# Altium footprint library KF301-5.0.PcbLib: 14 footprints
Each footprint in its own frame and in the unit in brackets; x right, y up, seen from the top. Pads: shape width x height; smd on the part's side, far side on the other; paste and mask are expansions set on the pad; w line width, h text height; cw(c..) or ccw(c..) is an arc to the next point about the centre after c.
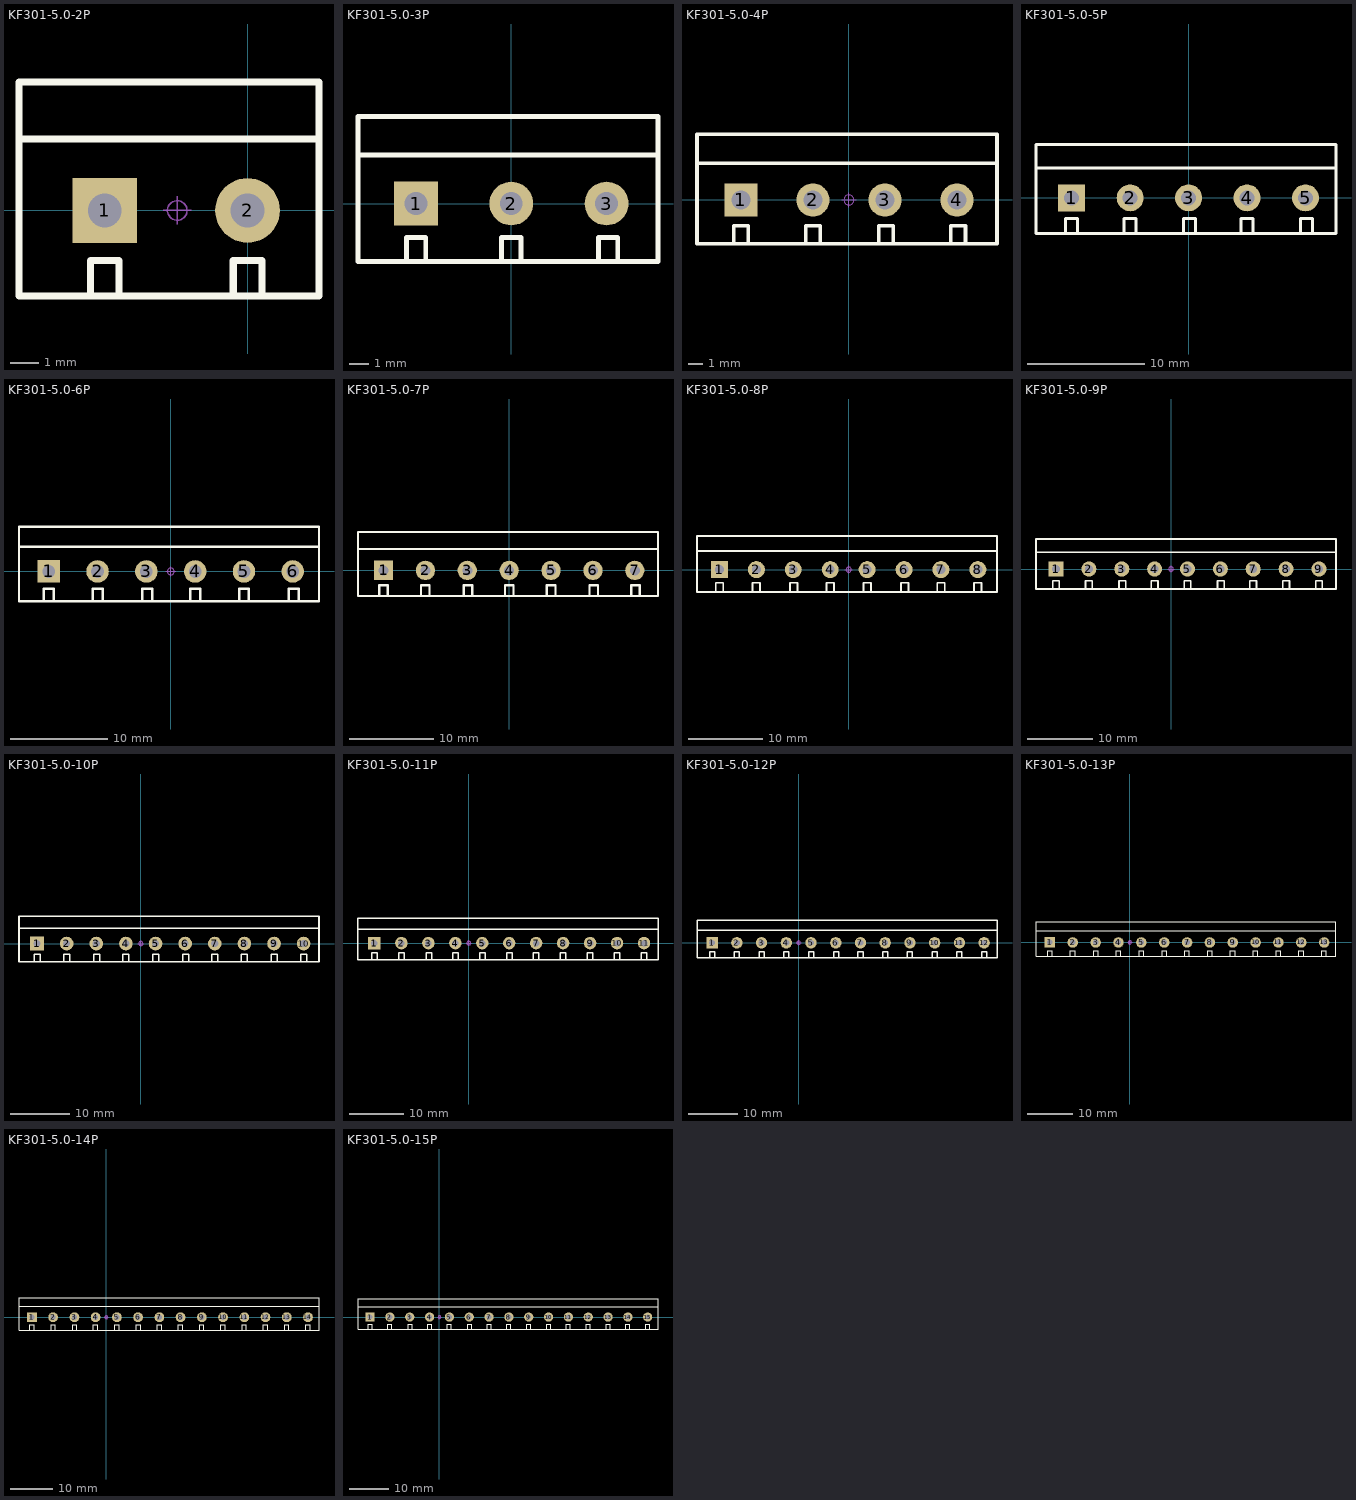
[diagram p0: the footprints below, top view; thin cyan lines are the x and y axes]

## KF301-5.0-2P [mm] "可拼接端子/6A"
pads (2):
  rect 2.3x2.3 hole 1.2: 1(-5.08,0)
  round 2.3 hole 1.2: 2(0,0)
Top Overlay:
  lines w0.254: -8.128,2.54 2.54,2.54 ; -5.588,-3.048 -5.588,-1.778 -4.572,-1.778 -4.572,-3.048 ; -0.508,-3.048 -0.508,-1.778 0.508,-1.778 0.508,-3.048 ; -8.128,-3.048 2.54,-3.048 2.54,4.572 -8.128,4.572 -8.128,-3.048
Mechanical 15:
  circle w0.05: c-2.5,0 r0.35
  lines w0.05: -3,0 -2,0 ; -2.5,-0.5 -2.5,0.5
3D body "KF301.STEP": height 10.05, standoff -3.75, extent -2.95,-3 2.55,4.6
3D body "KF301.STEP": height 10.05, standoff -3.75, extent -7.95,-3 -2.45,4.6

## KF301-5.0-3P [mm] "可拼接端子/6A"
pads (3):
  rect 2.3x2.3 hole 1.2: 1(-5,0)
  round 2.3 hole 1.2: 2(0,0) 3(5,0)
Top Overlay:
  lines w0.254: -8.048,2.54 7.7,2.54 ; -5.508,-3.048 -5.508,-1.778 -4.492,-1.778 -4.492,-3.048 ; -0.508,-3.048 -0.508,-1.778 0.508,-1.778 0.508,-3.048 ; 4.572,-3.048 4.572,-1.778 5.588,-1.778 5.588,-3.048 ; -8.048,-3.048 -8.048,4.572 7.7,4.572 7.7,-3.048 -8.048,-3.048
Mechanical 15:
  circle w0.05: c0,0 r0.35
  lines w0.05: -0.5,0 0.5,0 ; 0,-0.5 0,0.5
3D body "KF301.STEP": height 10.05, standoff -3.75, extent 2.13,-3 7.63,4.6
3D body "KF301.STEP": height 10.05, standoff -3.75, extent -2.87,-3 2.63,4.6
3D body "KF301.STEP": height 10.05, standoff -3.75, extent -7.87,-3 -2.37,4.6

## KF301-5.0-4P [mm] "可拼接端子/6A"
pads (4):
  rect 2.3x2.3 hole 1.3: 1(-7.5,0)
  round 2.3 hole 1.3: 2(-2.5,0) 3(2.5,0) 4(7.5,0)
Top Overlay:
  lines w0.254: -10.548,2.54 10.28,2.54 ; -8.008,-3.048 -8.008,-1.778 -6.992,-1.778 -6.992,-3.048 ; -3.008,-3.048 -3.008,-1.778 -1.992,-1.778 -1.992,-3.048 ; 2.072,-3.048 2.072,-1.778 3.088,-1.778 3.088,-3.048 ; 7.072,-3.048 7.072,-1.778 8.088,-1.778 8.088,-3.048 ; -10.548,-3.048 -10.548,4.572 10.28,4.572 10.28,-3.048 -10.548,-3.048
Mechanical 15:
  circle w0.05: c0,0 r0.35
  lines w0.05: -0.5,0 0.5,0 ; 0,-0.5 0,0.5
3D body "KF301.STEP": height 10.05, standoff -3.75, extent -10.37,-3 -4.87,4.6
3D body "KF301.STEP": height 10.05, standoff -3.75, extent -5.37,-3 0.13,4.6
3D body "KF301.STEP": height 10.05, standoff -3.75, extent -0.37,-3 5.13,4.6
3D body "KF301.STEP": height 10.05, standoff -3.75, extent 4.63,-3 10.13,4.6

## KF301-5.0-5P [mm] "可拼接端子/6A"
pads (5):
  rect 2.3x2.3 hole 1.3: 1(-10,0)
  round 2.3 hole 1.3: 2(-5,0) 3(0,0) 4(5,0) 5(10,0)
Top Overlay:
  lines w0.254: -13.048,2.54 12.606,2.54 ; -10.508,-3.048 -10.508,-1.778 -9.492,-1.778 -9.492,-3.048 ; -5.508,-3.048 -5.508,-1.778 -4.492,-1.778 -4.492,-3.048 ; -0.428,-3.048 -0.428,-1.778 0.588,-1.778 0.588,-3.048 ; 4.492,-3.048 4.492,-1.778 5.508,-1.778 5.508,-3.048 ; 9.572,-3.048 9.572,-1.778 10.588,-1.778 10.588,-3.048 ; -13.048,-3.048 -13.048,4.572 12.606,4.572 12.606,-3.048 -13.048,-3.048
Mechanical 15:
  circle w0.05: c0,0 r0.35
  lines w0.05: -0.5,0 0.5,0 ; 0,-0.5 0,0.5
3D body "KF301.STEP": height 10.05, standoff -3.75, extent 7.05,-3 12.55,4.6
3D body "KF301.STEP": height 10.05, standoff -3.75, extent 2.05,-3 7.55,4.6
3D body "KF301.STEP": height 10.05, standoff -3.75, extent -2.95,-3 2.55,4.6
3D body "KF301.STEP": height 10.05, standoff -3.75, extent -7.95,-3 -2.45,4.6
3D body "KF301.STEP": height 10.05, standoff -3.75, extent -12.87,-3 -7.37,4.6

## KF301-5.0-6P [mm] "可拼接端子/6A"
pads (6):
  rect 2.3x2.3 hole 1.3: 1(-12.5,0)
  round 2.3 hole 1.3: 2(-7.5,0) 3(-2.5,0) 4(2.5,0) 5(7.5,0) 6(12.5,0)
Top Overlay:
  lines w0.254: -15.548,2.54 15.186,2.54 ; -13.008,-3.048 -13.008,-1.778 -11.992,-1.778 -11.992,-3.048 ; -8.008,-3.048 -8.008,-1.778 -6.992,-1.778 -6.992,-3.048 ; -2.928,-3.048 -2.928,-1.778 -1.912,-1.778 -1.912,-3.048 ; 1.992,-3.048 1.992,-1.778 3.008,-1.778 3.008,-3.048 ; 6.992,-3.048 6.992,-1.778 8.008,-1.778 8.008,-3.048 ; 12.072,-3.048 12.072,-1.778 13.088,-1.778 13.088,-3.048 ; -15.548,-3.048 15.186,-3.048 15.186,4.572 -15.548,4.572 -15.548,-3.048
Mechanical 15:
  circle w0.05: c0,0 r0.35
  lines w0.05: -0.5,0 0.5,0 ; 0,-0.5 0,0.5
3D body "KF301.STEP": height 10.05, standoff -3.75, extent 9.63,-3 15.13,4.6
3D body "KF301.STEP": height 10.05, standoff -3.75, extent 4.63,-3 10.13,4.6
3D body "KF301.STEP": height 10.05, standoff -3.75, extent -0.37,-3 5.13,4.6
3D body "KF301.STEP": height 10.05, standoff -3.75, extent -5.37,-3 0.13,4.6
3D body "KF301.STEP": height 10.05, standoff -3.75, extent -10.37,-3 -4.87,4.6
3D body "KF301.STEP": height 10.05, standoff -3.75, extent -15.37,-3 -9.87,4.6

## KF301-5.0-7P [mm] "可拼接端子/6A"
pads (7):
  rect 2.3x2.3 hole 1.2: 1(-15,0)
  round 2.3 hole 1.2: 2(-10,0) 3(-5,0) 4(0,0) 5(5,0) 6(10,0) 7(15,0)
Top Overlay:
  lines w0.254: -18.048,2.54 17.766,2.54 ; -15.508,-3.048 -15.508,-1.778 -14.492,-1.778 -14.492,-3.048 ; -10.508,-3.048 -10.508,-1.778 -9.492,-1.778 -9.492,-3.048 ; -5.428,-3.048 -5.428,-1.778 -4.412,-1.778 -4.412,-3.048 ; -0.508,-3.048 -0.508,-1.778 0.508,-1.778 0.508,-3.048 ; 4.492,-3.048 4.492,-1.778 5.508,-1.778 5.508,-3.048 ; 9.572,-3.048 9.572,-1.778 10.588,-1.778 10.588,-3.048 ; 14.572,-3.048 14.572,-1.778 15.588,-1.778 15.588,-3.048 ; -18.048,-3.048 17.766,-3.048 17.766,4.572 -18.048,4.572 -18.048,-3.048
Mechanical 15:
  circle w0.05: c0,0 r0.35
  lines w0.05: -0.5,0 0.5,0 ; 0,-0.5 0,0.5
3D body "KF301.STEP": height 10.05, standoff -3.75, extent 12.13,-3 17.63,4.6
3D body "KF301.STEP": height 10.05, standoff -3.75, extent -17.87,-3 -12.37,4.6
3D body "KF301.STEP": height 10.05, standoff -3.75, extent -12.87,-3 -7.37,4.6
3D body "KF301.STEP": height 10.05, standoff -3.75, extent -7.87,-3 -2.37,4.6
3D body "KF301.STEP": height 10.05, standoff -3.75, extent -2.87,-3 2.63,4.6
3D body "KF301.STEP": height 10.05, standoff -3.75, extent 2.13,-3 7.63,4.6
3D body "KF301.STEP": height 10.05, standoff -3.75, extent 7.13,-3 12.63,4.6

## KF301-5.0-8P [mm] "可拼接端子/6A"
pads (8):
  rect 2.3x2.3 hole 1.2: 1(-17.5,0)
  round 2.3 hole 1.2: 2(-12.5,0) 3(-7.5,0) 4(-2.5,0) 5(2.5,0) 6(7.5,0) 7(12.5,0) 8(17.5,0)
Top Overlay:
  lines w0.254: -20.548,2.54 20.092,2.54 ; -18.008,-3.048 -18.008,-1.778 -16.992,-1.778 -16.992,-3.048 ; -13.008,-3.048 -13.008,-1.778 -11.992,-1.778 -11.992,-3.048 ; -7.928,-3.048 -7.928,-1.778 -6.912,-1.778 -6.912,-3.048 ; -3.008,-3.048 -3.008,-1.778 -1.992,-1.778 -1.992,-3.048 ; 1.992,-3.048 1.992,-1.778 3.008,-1.778 3.008,-3.048 ; 7.072,-3.048 7.072,-1.778 8.088,-1.778 8.088,-3.048 ; 11.992,-3.048 11.992,-1.778 13.008,-1.778 13.008,-3.048 ; 16.992,-3.048 16.992,-1.778 18.008,-1.778 18.008,-3.048 ; -20.548,-3.048 -20.548,4.572 20.092,4.572 20.092,-3.048 -20.548,-3.048
Mechanical 15:
  circle w0.05: c0,0 r0.35
  lines w0.05: -0.5,0 0.5,0 ; 0,-0.5 0,0.5
3D body "KF301.STEP": height 10.05, standoff -3.75, extent -20.37,-3 -14.87,4.6
3D body "KF301.STEP": height 10.05, standoff -3.75, extent -15.37,-3 -9.87,4.6
3D body "KF301.STEP": height 10.05, standoff -3.75, extent -10.37,-3 -4.87,4.6
3D body "KF301.STEP": height 10.05, standoff -3.75, extent -5.37,-3 0.13,4.6
3D body "KF301.STEP": height 10.05, standoff -3.75, extent -0.37,-3 5.13,4.6
3D body "KF301.STEP": height 10.05, standoff -3.75, extent 4.63,-3 10.13,4.6
3D body "KF301.STEP": height 10.05, standoff -3.75, extent 9.63,-3 15.13,4.6
3D body "KF301.STEP": height 10.05, standoff -3.75, extent 14.63,-3 20.13,4.6

## KF301-5.0-9P [mm] "可拼接端子/6A"
pads (9):
  rect 2.3x2.3 hole 1.2: 1(-17.5,0)
  round 2.3 hole 1.2: 2(-12.5,0) 3(-7.5,0) 4(-2.5,0) 5(2.5,0) 6(7.5,0) 7(12.5,0) 8(17.5,0) 9(22.5,0)
Top Overlay:
  lines w0.254: -20.548,2.54 20.092,2.54 25.052,2.54 ; -18.008,-3.048 -18.008,-1.778 -16.992,-1.778 -16.992,-3.048 ; -13.008,-3.048 -13.008,-1.778 -11.992,-1.778 -11.992,-3.048 ; -7.928,-3.048 -7.928,-1.778 -6.912,-1.778 -6.912,-3.048 ; -3.008,-3.048 -3.008,-1.778 -1.992,-1.778 -1.992,-3.048 ; 1.992,-3.048 1.992,-1.778 3.008,-1.778 3.008,-3.048 ; 7.072,-3.048 7.072,-1.778 8.088,-1.778 8.088,-3.048 ; 11.992,-3.048 11.992,-1.778 13.008,-1.778 13.008,-3.048 ; 16.992,-3.048 16.992,-1.778 18.008,-1.778 18.008,-3.048 ; 21.992,-3.048 21.992,-1.778 23.008,-1.778 23.008,-3.048 ; -20.548,-3.048 20.092,-3.048 25.092,-3.048 25.092,4.572 20.092,4.572 -20.548,4.572 -20.548,-3.048
Mechanical 15:
  circle w0.05: c0,0 r0.35
  lines w0.05: -0.5,0 0.5,0 ; 0,-0.5 0,0.5
3D body "KF301.STEP": height 10.05, standoff -3.75, extent 19.63,-3 25.13,4.6
3D body "KF301.STEP": height 10.05, standoff -3.75, extent 14.63,-3 20.13,4.6
3D body "KF301.STEP": height 10.05, standoff -3.75, extent 9.63,-3 15.13,4.6
3D body "KF301.STEP": height 10.05, standoff -3.75, extent 4.63,-3 10.13,4.6
3D body "KF301.STEP": height 10.05, standoff -3.75, extent -0.37,-3 5.13,4.6
3D body "KF301.STEP": height 10.05, standoff -3.75, extent -5.37,-3 0.13,4.6
3D body "KF301.STEP": height 10.05, standoff -3.75, extent -10.37,-3 -4.87,4.6
3D body "KF301.STEP": height 10.05, standoff -3.75, extent -15.37,-3 -9.87,4.6
3D body "KF301.STEP": height 10.05, standoff -3.75, extent -20.37,-3 -14.87,4.6

## KF301-5.0-10P [mm] "可拼接端子/6A"
pads (10):
  rect 2.3x2.3 hole 1.2: 1(-17.5,0)
  round 2.3 hole 1.2: 2(-12.5,0) 3(-7.5,0) 4(-2.5,0) 5(2.5,0) 6(7.5,0) 7(12.5,0) 8(17.5,0) 9(22.5,0) 10(27.5,0)
Top Overlay:
  lines w0.254: -20.548,2.54 20.092,2.54 25.052,2.54 ; -18.008,-3.048 -18.008,-1.778 -16.992,-1.778 -16.992,-3.048 ; -13.008,-3.048 -13.008,-1.778 -11.992,-1.778 -11.992,-3.048 ; -7.928,-3.048 -7.928,-1.778 -6.912,-1.778 -6.912,-3.048 ; -3.008,-3.048 -3.008,-1.778 -1.992,-1.778 -1.992,-3.048 ; 1.992,-3.048 1.992,-1.778 3.008,-1.778 3.008,-3.048 ; 7.072,-3.048 7.072,-1.778 8.088,-1.778 8.088,-3.048 ; 11.992,-3.048 11.992,-1.778 13.008,-1.778 13.008,-3.048 ; 16.992,-3.048 16.992,-1.778 18.008,-1.778 18.008,-3.048 ; 21.992,-3.048 21.992,-1.778 23.008,-1.778 23.008,-3.048 ; 25.092,2.54 30.052,2.54 ; 26.992,-3.048 26.992,-1.778 28.008,-1.778 28.008,-3.048 ; -20.548,-3.048 -20.548,4.572 20.092,4.572 25.092,4.572 30.092,4.572 30.092,-3.048 25.092,-3.048 20.092,-3.048 -20.548,-3.048
Mechanical 15:
  circle w0.05: c0,0 r0.35
  lines w0.05: -0.5,0 0.5,0 ; 0,-0.5 0,0.5
3D body "KF301.STEP": height 10.05, standoff -3.75, extent 24.63,-3 30.13,4.6
3D body "KF301.STEP": height 10.05, standoff -3.75, extent -20.37,-3 -14.87,4.6
3D body "KF301.STEP": height 10.05, standoff -3.75, extent -15.37,-3 -9.87,4.6
3D body "KF301.STEP": height 10.05, standoff -3.75, extent -10.37,-3 -4.87,4.6
3D body "KF301.STEP": height 10.05, standoff -3.75, extent -5.37,-3 0.13,4.6
3D body "KF301.STEP": height 10.05, standoff -3.75, extent -0.37,-3 5.13,4.6
3D body "KF301.STEP": height 10.05, standoff -3.75, extent 4.63,-3 10.13,4.6
3D body "KF301.STEP": height 10.05, standoff -3.75, extent 9.63,-3 15.13,4.6
3D body "KF301.STEP": height 10.05, standoff -3.75, extent 14.63,-3 20.13,4.6
3D body "KF301.STEP": height 10.05, standoff -3.75, extent 19.63,-3 25.13,4.6

## KF301-5.0-11P [mm] "可拼接端子/6A"
pads (11):
  rect 2.3x2.3 hole 1.2: 1(-17.5,0)
  round 2.3 hole 1.2: 2(-12.5,0) 3(-7.5,0) 4(-2.5,0) 5(2.5,0) 6(7.5,0) 7(12.5,0) 8(17.5,0) 9(22.5,0) 10(27.5,0) 11(32.5,0)
Top Overlay:
  lines w0.254: -20.548,2.54 20.092,2.54 25.052,2.54 ; -18.008,-3.048 -18.008,-1.778 -16.992,-1.778 -16.992,-3.048 ; -13.008,-3.048 -13.008,-1.778 -11.992,-1.778 -11.992,-3.048 ; -7.928,-3.048 -7.928,-1.778 -6.912,-1.778 -6.912,-3.048 ; -3.008,-3.048 -3.008,-1.778 -1.992,-1.778 -1.992,-3.048 ; 1.992,-3.048 1.992,-1.778 3.008,-1.778 3.008,-3.048 ; 7.072,-3.048 7.072,-1.778 8.088,-1.778 8.088,-3.048 ; 11.992,-3.048 11.992,-1.778 13.008,-1.778 13.008,-3.048 ; 16.992,-3.048 16.992,-1.778 18.008,-1.778 18.008,-3.048 ; 21.992,-3.048 21.992,-1.778 23.008,-1.778 23.008,-3.048 ; 25.092,2.54 30.052,2.54 ; 26.992,-3.048 26.992,-1.778 28.008,-1.778 28.008,-3.048 ; 30.092,2.54 35.052,2.54 ; 31.992,-3.048 31.992,-1.778 33.008,-1.778 33.008,-3.048 ; -20.548,-3.048 20.092,-3.048 25.092,-3.048 30.092,-3.048 35.092,-3.048 35.092,4.572 30.092,4.572 25.092,4.572 20.092,4.572 -20.548,4.572 -20.548,-3.048
Mechanical 15:
  circle w0.05: c0,0 r0.35
  lines w0.05: -0.5,0 0.5,0 ; 0,-0.5 0,0.5
3D body "KF301.STEP": height 10.05, standoff -3.75, extent 29.63,-3 35.13,4.6
3D body "KF301.STEP": height 10.05, standoff -3.75, extent 19.63,-3 25.13,4.6
3D body "KF301.STEP": height 10.05, standoff -3.75, extent 14.63,-3 20.13,4.6
3D body "KF301.STEP": height 10.05, standoff -3.75, extent 9.63,-3 15.13,4.6
3D body "KF301.STEP": height 10.05, standoff -3.75, extent 4.63,-3 10.13,4.6
3D body "KF301.STEP": height 10.05, standoff -3.75, extent -0.37,-3 5.13,4.6
3D body "KF301.STEP": height 10.05, standoff -3.75, extent -5.37,-3 0.13,4.6
3D body "KF301.STEP": height 10.05, standoff -3.75, extent -10.37,-3 -4.87,4.6
3D body "KF301.STEP": height 10.05, standoff -3.75, extent -15.37,-3 -9.87,4.6
3D body "KF301.STEP": height 10.05, standoff -3.75, extent -20.37,-3 -14.87,4.6
3D body "KF301.STEP": height 10.05, standoff -3.75, extent 24.63,-3 30.13,4.6

## KF301-5.0-12P [mm] "可拼接端子/6A"
pads (12):
  rect 2.3x2.3 hole 1.2: 1(-17.5,0)
  round 2.3 hole 1.2: 2(-12.5,0) 3(-7.5,0) 4(-2.5,0) 5(2.5,0) 6(7.5,0) 7(12.5,0) 8(17.5,0) 9(22.5,0) 10(27.5,0) 11(32.5,0) 12(37.5,0)
Top Overlay:
  lines w0.254: -20.548,2.54 20.092,2.54 25.052,2.54 ; -18.008,-3.048 -18.008,-1.778 -16.992,-1.778 -16.992,-3.048 ; -13.008,-3.048 -13.008,-1.778 -11.992,-1.778 -11.992,-3.048 ; -7.928,-3.048 -7.928,-1.778 -6.912,-1.778 -6.912,-3.048 ; -3.008,-3.048 -3.008,-1.778 -1.992,-1.778 -1.992,-3.048 ; 1.992,-3.048 1.992,-1.778 3.008,-1.778 3.008,-3.048 ; 7.072,-3.048 7.072,-1.778 8.088,-1.778 8.088,-3.048 ; 11.992,-3.048 11.992,-1.778 13.008,-1.778 13.008,-3.048 ; 16.992,-3.048 16.992,-1.778 18.008,-1.778 18.008,-3.048 ; 21.992,-3.048 21.992,-1.778 23.008,-1.778 23.008,-3.048 ; 25.092,2.54 30.052,2.54 ; 26.992,-3.048 26.992,-1.778 28.008,-1.778 28.008,-3.048 ; 30.092,2.54 35.052,2.54 ; 31.992,-3.048 31.992,-1.778 33.008,-1.778 33.008,-3.048 ; 35.092,2.54 40.052,2.54 ; 36.992,-3.048 36.992,-1.778 38.008,-1.778 38.008,-3.048 ; -20.548,-3.048 -20.548,4.572 20.092,4.572 25.092,4.572 30.092,4.572 35.092,4.572 40.092,4.572 40.092,-3.048 35.092,-3.048 30.092,-3.048 25.092,-3.048 20.092,-3.048 -20.548,-3.048
Mechanical 15:
  circle w0.05: c0,0 r0.35
  lines w0.05: -0.5,0 0.5,0 ; 0,-0.5 0,0.5
3D body "KF301.STEP": height 10.05, standoff -3.75, extent 24.63,-3 30.13,4.6
3D body "KF301.STEP": height 10.05, standoff -3.75, extent -20.37,-3 -14.87,4.6
3D body "KF301.STEP": height 10.05, standoff -3.75, extent -15.37,-3 -9.87,4.6
3D body "KF301.STEP": height 10.05, standoff -3.75, extent -10.37,-3 -4.87,4.6
3D body "KF301.STEP": height 10.05, standoff -3.75, extent -5.37,-3 0.13,4.6
3D body "KF301.STEP": height 10.05, standoff -3.75, extent -0.37,-3 5.13,4.6
3D body "KF301.STEP": height 10.05, standoff -3.75, extent 4.63,-3 10.13,4.6
3D body "KF301.STEP": height 10.05, standoff -3.75, extent 9.63,-3 15.13,4.6
3D body "KF301.STEP": height 10.05, standoff -3.75, extent 14.63,-3 20.13,4.6
3D body "KF301.STEP": height 10.05, standoff -3.75, extent 19.63,-3 25.13,4.6
3D body "KF301.STEP": height 10.05, standoff -3.75, extent 29.63,-3 35.13,4.6
3D body "KF301.STEP": height 10.05, standoff -3.75, extent 34.63,-3 40.13,4.6

## KF301-5.0-13P [mm] "可拼接端子/6A"
pads (13):
  rect 2.3x2.3 hole 1.2: 1(-17.5,0)
  round 2.3 hole 1.2: 2(-12.5,0) 3(-7.5,0) 4(-2.5,0) 5(2.5,0) 6(7.5,0) 7(12.5,0) 8(17.5,0) 9(22.5,0) 10(27.5,0) 11(32.5,0) 12(37.5,0) 13(42.5,0)
Top Overlay:
  lines w0.254: -20.548,2.54 20.092,2.54 25.052,2.54 ; -18.008,-3.048 -18.008,-1.778 -16.992,-1.778 -16.992,-3.048 ; -13.008,-3.048 -13.008,-1.778 -11.992,-1.778 -11.992,-3.048 ; -7.928,-3.048 -7.928,-1.778 -6.912,-1.778 -6.912,-3.048 ; -3.008,-3.048 -3.008,-1.778 -1.992,-1.778 -1.992,-3.048 ; 1.992,-3.048 1.992,-1.778 3.008,-1.778 3.008,-3.048 ; 7.072,-3.048 7.072,-1.778 8.088,-1.778 8.088,-3.048 ; 11.992,-3.048 11.992,-1.778 13.008,-1.778 13.008,-3.048 ; 16.992,-3.048 16.992,-1.778 18.008,-1.778 18.008,-3.048 ; 21.992,-3.048 21.992,-1.778 23.008,-1.778 23.008,-3.048 ; 25.092,2.54 30.052,2.54 ; 26.992,-3.048 26.992,-1.778 28.008,-1.778 28.008,-3.048 ; 30.092,2.54 35.052,2.54 ; 31.992,-3.048 31.992,-1.778 33.008,-1.778 33.008,-3.048 ; 35.092,2.54 40.052,2.54 ; 36.992,-3.048 36.992,-1.778 38.008,-1.778 38.008,-3.048 ; 40.092,2.54 45.052,2.54 ; 41.992,-3.048 41.992,-1.778 43.008,-1.778 43.008,-3.048 ; -20.548,-3.048 20.092,-3.048 25.092,-3.048 30.092,-3.048 35.092,-3.048 40.092,-3.048 45.092,-3.048 45.092,4.572 40.092,4.572 35.092,4.572 30.092,4.572 25.092,4.572 20.092,4.572 -20.548,4.572 -20.548,-3.048
Mechanical 15:
  circle w0.05: c0,0 r0.35
  lines w0.05: -0.5,0 0.5,0 ; 0,-0.5 0,0.5
3D body "KF301.STEP": height 10.05, standoff -3.75, extent 39.63,-3 45.13,4.6
3D body "KF301.STEP": height 10.05, standoff -3.75, extent 34.63,-3 40.13,4.6
3D body "KF301.STEP": height 10.05, standoff -3.75, extent 29.63,-3 35.13,4.6
3D body "KF301.STEP": height 10.05, standoff -3.75, extent 19.63,-3 25.13,4.6
3D body "KF301.STEP": height 10.05, standoff -3.75, extent 14.63,-3 20.13,4.6
3D body "KF301.STEP": height 10.05, standoff -3.75, extent 9.63,-3 15.13,4.6
3D body "KF301.STEP": height 10.05, standoff -3.75, extent 4.63,-3 10.13,4.6
3D body "KF301.STEP": height 10.05, standoff -3.75, extent -0.37,-3 5.13,4.6
3D body "KF301.STEP": height 10.05, standoff -3.75, extent -5.37,-3 0.13,4.6
3D body "KF301.STEP": height 10.05, standoff -3.75, extent -10.37,-3 -4.87,4.6
3D body "KF301.STEP": height 10.05, standoff -3.75, extent -15.37,-3 -9.87,4.6
3D body "KF301.STEP": height 10.05, standoff -3.75, extent -20.37,-3 -14.87,4.6
3D body "KF301.STEP": height 10.05, standoff -3.75, extent 24.63,-3 30.13,4.6

## KF301-5.0-14P [mm] "可拼接端子/6A"
pads (14):
  rect 2.3x2.3 hole 1.2: 1(-17.5,0)
  round 2.3 hole 1.2: 2(-12.5,0) 3(-7.5,0) 4(-2.5,0) 5(2.5,0) 6(7.5,0) 7(12.5,0) 8(17.5,0) 9(22.5,0) 10(27.5,0) 11(32.5,0) 12(37.5,0) 13(42.5,0) 14(47.5,0)
Top Overlay:
  lines w0.254: -20.548,2.54 20.092,2.54 25.052,2.54 ; -18.008,-3.048 -18.008,-1.778 -16.992,-1.778 -16.992,-3.048 ; -13.008,-3.048 -13.008,-1.778 -11.992,-1.778 -11.992,-3.048 ; -7.928,-3.048 -7.928,-1.778 -6.912,-1.778 -6.912,-3.048 ; -3.008,-3.048 -3.008,-1.778 -1.992,-1.778 -1.992,-3.048 ; 1.992,-3.048 1.992,-1.778 3.008,-1.778 3.008,-3.048 ; 7.072,-3.048 7.072,-1.778 8.088,-1.778 8.088,-3.048 ; 11.992,-3.048 11.992,-1.778 13.008,-1.778 13.008,-3.048 ; 16.992,-3.048 16.992,-1.778 18.008,-1.778 18.008,-3.048 ; 21.992,-3.048 21.992,-1.778 23.008,-1.778 23.008,-3.048 ; 25.092,2.54 30.052,2.54 ; 26.992,-3.048 26.992,-1.778 28.008,-1.778 28.008,-3.048 ; 30.092,2.54 35.052,2.54 ; 31.992,-3.048 31.992,-1.778 33.008,-1.778 33.008,-3.048 ; 35.092,2.54 40.052,2.54 ; 36.992,-3.048 36.992,-1.778 38.008,-1.778 38.008,-3.048 ; 40.092,2.54 45.052,2.54 ; 41.992,-3.048 41.992,-1.778 43.008,-1.778 43.008,-3.048 ; 45.092,2.54 50.052,2.54 ; 46.992,-3.048 46.992,-1.778 48.008,-1.778 48.008,-3.048 ; -20.548,-3.048 -20.548,4.572 20.092,4.572 25.092,4.572 30.092,4.572 35.092,4.572 40.092,4.572 45.092,4.572 50.092,4.572 50.092,-3.048 45.092,-3.048 40.092,-3.048 35.092,-3.048 30.092,-3.048 25.092,-3.048 20.092,-3.048 -20.548,-3.048
Mechanical 15:
  circle w0.05: c0,0 r0.35
  lines w0.05: -0.5,0 0.5,0 ; 0,-0.5 0,0.5
3D body "KF301.STEP": height 10.05, standoff -3.75, extent 44.63,-3 50.13,4.6
3D body "KF301.STEP": height 10.05, standoff -3.75, extent 24.63,-3 30.13,4.6
3D body "KF301.STEP": height 10.05, standoff -3.75, extent -20.37,-3 -14.87,4.6
3D body "KF301.STEP": height 10.05, standoff -3.75, extent -15.37,-3 -9.87,4.6
3D body "KF301.STEP": height 10.05, standoff -3.75, extent -10.37,-3 -4.87,4.6
3D body "KF301.STEP": height 10.05, standoff -3.75, extent -5.37,-3 0.13,4.6
3D body "KF301.STEP": height 10.05, standoff -3.75, extent -0.37,-3 5.13,4.6
3D body "KF301.STEP": height 10.05, standoff -3.75, extent 4.63,-3 10.13,4.6
3D body "KF301.STEP": height 10.05, standoff -3.75, extent 9.63,-3 15.13,4.6
3D body "KF301.STEP": height 10.05, standoff -3.75, extent 14.63,-3 20.13,4.6
3D body "KF301.STEP": height 10.05, standoff -3.75, extent 19.63,-3 25.13,4.6
3D body "KF301.STEP": height 10.05, standoff -3.75, extent 29.63,-3 35.13,4.6
3D body "KF301.STEP": height 10.05, standoff -3.75, extent 34.63,-3 40.13,4.6
3D body "KF301.STEP": height 10.05, standoff -3.75, extent 39.63,-3 45.13,4.6

## KF301-5.0-15P [mm] "可拼接端子/6A"
pads (15):
  rect 2.3x2.3 hole 1.2: 1(-17.5,0)
  round 2.3 hole 1.2: 2(-12.5,0) 3(-7.5,0) 4(-2.5,0) 5(2.5,0) 6(7.5,0) 7(12.5,0) 8(17.5,0) 9(22.5,0) 10(27.5,0) 11(32.5,0) 12(37.5,0) 13(42.5,0) 14(47.5,0) 15(52.5,0)
Top Overlay:
  lines w0.254: -20.548,2.54 20.092,2.54 25.052,2.54 ; -18.008,-3.048 -18.008,-1.778 -16.992,-1.778 -16.992,-3.048 ; -13.008,-3.048 -13.008,-1.778 -11.992,-1.778 -11.992,-3.048 ; -7.928,-3.048 -7.928,-1.778 -6.912,-1.778 -6.912,-3.048 ; -3.008,-3.048 -3.008,-1.778 -1.992,-1.778 -1.992,-3.048 ; 1.992,-3.048 1.992,-1.778 3.008,-1.778 3.008,-3.048 ; 7.072,-3.048 7.072,-1.778 8.088,-1.778 8.088,-3.048 ; 11.992,-3.048 11.992,-1.778 13.008,-1.778 13.008,-3.048 ; 16.992,-3.048 16.992,-1.778 18.008,-1.778 18.008,-3.048 ; 21.992,-3.048 21.992,-1.778 23.008,-1.778 23.008,-3.048 ; 25.092,2.54 30.052,2.54 ; 26.992,-3.048 26.992,-1.778 28.008,-1.778 28.008,-3.048 ; 30.092,2.54 35.052,2.54 ; 31.992,-3.048 31.992,-1.778 33.008,-1.778 33.008,-3.048 ; 35.092,2.54 40.052,2.54 ; 36.992,-3.048 36.992,-1.778 38.008,-1.778 38.008,-3.048 ; 40.092,2.54 45.052,2.54 ; 41.992,-3.048 41.992,-1.778 43.008,-1.778 43.008,-3.048 ; 45.092,2.54 50.052,2.54 ; 46.992,-3.048 46.992,-1.778 48.008,-1.778 48.008,-3.048 ; 50.092,2.54 55.052,2.54 ; 51.992,-3.048 51.992,-1.778 53.008,-1.778 53.008,-3.048 ; -20.548,-3.048 20.092,-3.048 25.092,-3.048 30.092,-3.048 35.092,-3.048 40.092,-3.048 45.092,-3.048 50.092,-3.048 55.092,-3.048 55.092,4.572 50.092,4.572 45.092,4.572 40.092,4.572 35.092,4.572 30.092,4.572 25.092,4.572 20.092,4.572 -20.548,4.572 -20.548,-3.048
Mechanical 15:
  circle w0.05: c0,0 r0.35
  lines w0.05: -0.5,0 0.5,0 ; 0,-0.5 0,0.5
3D body "KF301.STEP": height 10.05, standoff -3.75, extent 39.63,-3 45.13,4.6
3D body "KF301.STEP": height 10.05, standoff -3.75, extent 34.63,-3 40.13,4.6
3D body "KF301.STEP": height 10.05, standoff -3.75, extent 29.63,-3 35.13,4.6
3D body "KF301.STEP": height 10.05, standoff -3.75, extent 49.63,-3 55.13,4.6
3D body "KF301.STEP": height 10.05, standoff -3.75, extent 19.63,-3 25.13,4.6
3D body "KF301.STEP": height 10.05, standoff -3.75, extent 14.63,-3 20.13,4.6
3D body "KF301.STEP": height 10.05, standoff -3.75, extent 9.63,-3 15.13,4.6
3D body "KF301.STEP": height 10.05, standoff -3.75, extent 4.63,-3 10.13,4.6
3D body "KF301.STEP": height 10.05, standoff -3.75, extent -0.37,-3 5.13,4.6
3D body "KF301.STEP": height 10.05, standoff -3.75, extent -5.37,-3 0.13,4.6
3D body "KF301.STEP": height 10.05, standoff -3.75, extent -10.37,-3 -4.87,4.6
3D body "KF301.STEP": height 10.05, standoff -3.75, extent -15.37,-3 -9.87,4.6
3D body "KF301.STEP": height 10.05, standoff -3.75, extent -20.37,-3 -14.87,4.6
3D body "KF301.STEP": height 10.05, standoff -3.75, extent 24.63,-3 30.13,4.6
3D body "KF301.STEP": height 10.05, standoff -3.75, extent 44.63,-3 50.13,4.6